# Altium footprint library Header_Pcb.PcbLib: 10 footprints
Each footprint in its own frame and in the unit in brackets; x right, y up, seen from the top. Pads: shape width x height; smd on the part's side, far side on the other; paste and mask are expansions set on the pad; w line width, h text height; cw(c..) or ccw(c..) is an arc to the next point about the centre after c.
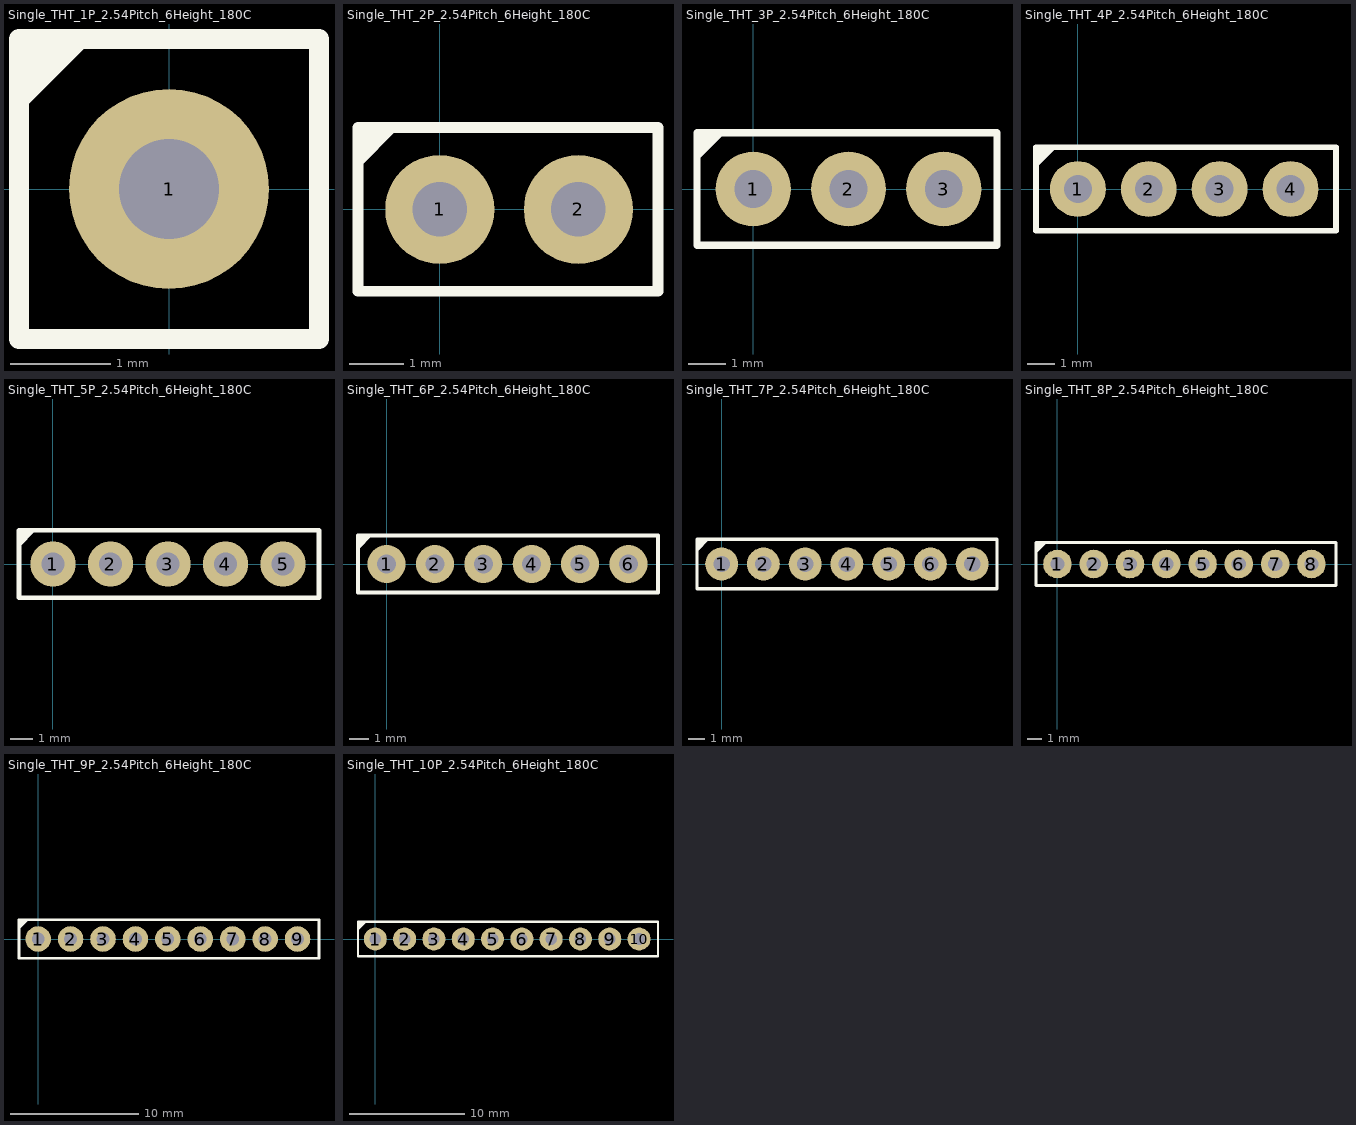
[diagram p0: the footprints below, top view; thin cyan lines are the x and y axes]

## Single_THT_1P_2.54Pitch_6Height_180C [mm]
pads (1):
  round 2 hole 1: 1(0,0)
Top Overlay:
  region: -1.5,1.5 -0.75,1.5 -1.5,0.75
  lines w0.2: -1.5,-1.5 1.5,-1.5 1.5,1.5 -1.5,1.5 -1.5,-1.5
3D body "sinle_1p.stp": height 8.55, standoff -2.99, extent -1.27,-1.27 1.27,1.27

## Single_THT_2P_2.54Pitch_6Height_180C [mm]
pads (2):
  round 2 hole 1: 1(0,0) 2(2.54,0)
Top Overlay:
  region: -1.5,1.5 -0.75,1.5 -1.5,0.75
  region: -1.25,2.25
  lines w0.2: -1.5,-1.5 4,-1.5 4,1.5 -1.5,1.5 -1.5,-1.5
3D body "single_2p.stp": height 8.55, standoff -2.99, extent -1.29,-1.27 3.79,1.27

## Single_THT_3P_2.54Pitch_6Height_180C [mm]
pads (3):
  round 2 hole 1: 1(0,0) 2(2.54,0) 3(5.08,0)
Top Overlay:
  region: -1.5,1.5 -0.75,1.5 -1.5,0.75
  lines w0.2: -1.5,-1.5 -1.5,1.5 6.5,1.5 6.5,-1.5 -1.5,-1.5
3D body "single_3p.stp": height 8.55, standoff -2.99, extent -1.27,-1.27 6.35,1.27

## Single_THT_4P_2.54Pitch_6Height_180C [mm]
pads (4):
  round 2 hole 1: 1(0,0) 2(2.54,0) 3(5.08,0) 4(7.62,0)
Top Overlay:
  region: -1.5,1.5 -0.75,1.5 -1.5,0.75
  lines w0.2: -1.5,-1.5 9.25,-1.5 9.25,1.5 -1.5,1.5 -1.5,-1.5
3D body "single_4p.stp": height 8.55, standoff -2.99, extent -1.27,-1.27 8.89,1.27

## Single_THT_5P_2.54Pitch_6Height_180C [mm]
pads (5):
  round 2 hole 1: 1(0,0) 2(2.54,0) 3(5.08,0) 4(7.62,0) 5(10.16,0)
Top Overlay:
  region: -1.5,1.5 -0.75,1.5 -1.5,0.75
  lines w0.2: -1.5,-1.5 -1.5,1.5 11.75,1.5 11.75,-1.5 -1.5,-1.5
3D body "single_5p.stp": height 8.55, standoff -2.99, extent -1.27,-1.27 11.43,1.27

## Single_THT_6P_2.54Pitch_6Height_180C [mm]
pads (6):
  round 2 hole 1: 1(0,0) 2(2.54,0) 3(5.08,0) 4(7.62,0) 5(10.16,0) 6(12.7,0)
Top Overlay:
  region: -1.5,1.5 -0.75,1.5 -1.5,0.75
  lines w0.2: -1.5,-1.5 -1.5,1.5 14.25,1.5 14.25,-1.5 -1.5,-1.5
3D body "single_6p.stp": height 8.55, standoff -2.99, extent -1.27,-1.27 13.97,1.27

## Single_THT_7P_2.54Pitch_6Height_180C [mm]
pads (7):
  round 2 hole 1: 1(0,0) 2(2.54,0) 3(5.08,0) 4(7.62,0) 5(10.16,0) 6(12.7,0) 7(15.24,0)
Top Overlay:
  region: -1.5,1.5 -0.75,1.5 -1.5,0.75
  lines w0.2: -1.5,-1.5 -1.5,1.5 16.75,1.5 16.75,-1.5 -1.5,-1.5
3D body "single_7p.stp": height 8.55, standoff -2.99, extent -1.27,-1.27 16.51,1.27

## Single_THT_8P_2.54Pitch_6Height_180C [mm]
pads (8):
  round 2 hole 1: 1(0,0) 2(2.54,0) 3(5.08,0) 4(7.62,0) 5(10.16,0) 6(12.7,0) 7(15.24,0) 8(17.78,0)
Top Overlay:
  region: -1.5,1.5 -0.75,1.5 -1.5,0.75
  lines w0.2: -1.5,-1.5 19.5,-1.5 19.5,1.5 -1.5,1.5 -1.5,-1.5
3D body "single_8p.stp": height 8.55, standoff -2.99, extent -1.27,-1.27 19.05,1.27

## Single_THT_9P_2.54Pitch_6Height_180C [mm]
pads (9):
  round 2 hole 1: 1(0,0) 2(2.54,0) 3(5.08,0) 4(7.62,0) 5(10.16,0) 6(12.7,0) 7(15.24,0) 8(17.78,0) 9(20.32,0)
Top Overlay:
  region: -1.5,1.5 -0.75,1.5 -1.5,0.75
  lines w0.2: -1.5,-1.5 -1.5,1.5 22,1.5 22,-1.5 -1.5,-1.5
3D body "single_9p.stp": height 8.55, standoff -2.99, extent -1.27,-1.27 21.59,1.27

## Single_THT_10P_2.54Pitch_6Height_180C [mm]
pads (10):
  round 2 hole 1: 1(0,0) 2(2.54,0) 3(5.08,0) 4(7.62,0) 5(10.16,0) 6(12.7,0) 7(15.24,0) 8(17.78,0) 9(20.32,0) 10(22.86,0)
Top Overlay:
  region: -1.5,1.5 -0.75,1.5 -1.5,0.75
  lines w0.2: -1.5,-1.5 24.5,-1.5 24.5,1.5 -1.5,1.5 -1.5,-1.5
3D body "single_10p.stp": height 8.04, standoff -3.5, extent -1.12,-1.27 23.98,1.27